# Altium footprint library Smartwatch_Lib.PcbLib: 19 footprints (part 1 of 2)
Each footprint in its own frame and in the unit in brackets; x right, y up, seen from the top. Pads: shape width x height; smd on the part's side, far side on the other; paste and mask are expansions set on the pad; w line width, h text height; cw(c..) or ccw(c..) is an arc to the next point about the centre after c.
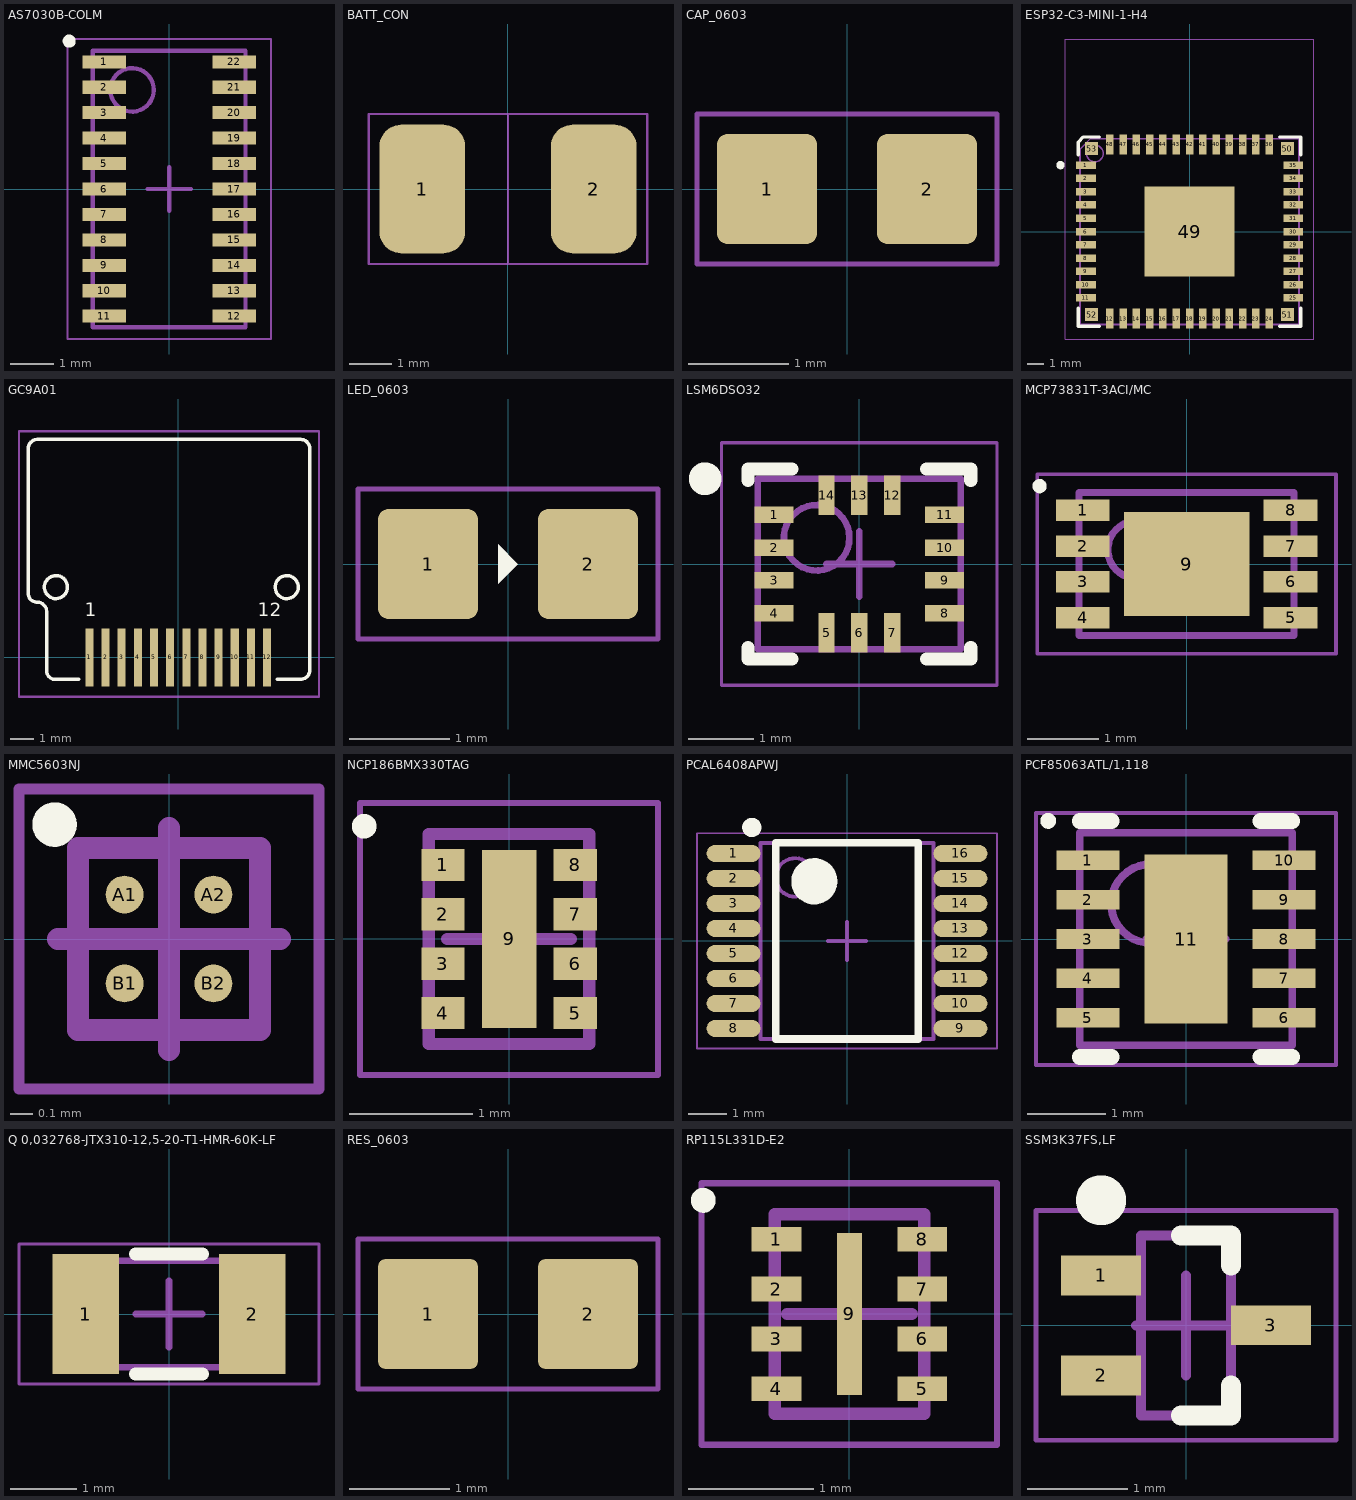
[diagram p0: the footprints below, top view; thin cyan lines are the x and y axes]

## AS7030B-COLM [mm] "SON, 22-Leads, Body 6.36x3.51mm, Pitch 0.59mm, IPC Medium Density"
height 1.1
pads (22):
  rect 1x0.3 smd: 1(-1.495,2.925) 2(-1.495,2.34) 3(-1.495,1.755) 4(-1.495,1.17) 5(-1.495,0.585) 6(-1.495,0) 7(-1.495,-0.585) 8(-1.495,-1.17) 9(-1.495,-1.755) 10(-1.495,-2.34) 11(-1.495,-2.925) 12(1.495,-2.925) 13(1.495,-2.34) 14(1.495,-1.755) 15(1.495,-1.17) 16(1.495,-0.585) 17(1.495,0) 18(1.495,0.585) 19(1.495,1.17) 20(1.495,1.755) 21(1.495,2.34) 22(1.495,2.925)
Top Overlay:
  circle w0.2: c-2.3,3.4 r0.05
Mechanical 13:
  circle w0.1: c-0.855,2.28 r0.5
  lines w0.1: -1.755,-3.18 -1.755,3.18 1.755,3.18 1.755,-3.18 -1.755,-3.18
Mechanical 15:
  lines w0.05: -2.34,-3.45 -2.34,3.45 2.34,3.45 2.34,-3.45 -2.34,-3.45
  lines w0.1: -0.5,0 0.5,0 ; 0,-0.5 0,0.5
3D body "SON58P350X110-22N.step": height 1.1, standoff 0, extent -1.755,-3.18 1.755,3.18

## BATT_CON [mm]
pads (2):
  rrect50% 2x3 smd: 1(-2,0) 2(2,0)
Mechanical 15:
  lines w0.05: 0,-1.75 0,1.75 ; -3.25,-1.75 -3.25,1.75 3.25,1.75 3.25,-1.75 -3.25,-1.75

## CAP_0603 [mm]
pads (2):
  rrect20% 1x1.1 smd: 1(-0.8,0) 2(0.8,0)
Mechanical 13:
  lines w0.1: -0.875,-0.475 -0.875,0.475 ; 0.875,-0.475 0.875,0.475
Mechanical 15:
  lines w0.05: -1.5,-0.75 1.5,-0.75 1.5,0.75 -1.5,0.75 -1.5,-0.75
3D body "c0603c101j1gactu.stp": height 0.87, standoff 0, extent -0.875,-0.475 0.875,0.475
3D body: height 0.55, standoff 0, extent -0.875,-0.475 -0.525,0.475
3D body: height 0.55, standoff 0, extent 0.525,-0.475 0.875,0.475

## ESP32-C3-MINI-1-H4 [mm]
height 2.55
pads (62):
  rect 1.2x0.45 smd: 1(-6.25,4) 2(-6.25,3.2) 3(-6.25,2.4) 4(-6.25,1.6) 5(-6.25,0.8) 6(-6.25,0) 7(-6.25,-0.8) 8(-6.25,-1.6) 9(-6.25,-2.4) 10(-6.25,-3.2) 11(-6.25,-4) 25(6.25,-4) 26(6.25,-3.2) 27(6.25,-2.4) 28(6.25,-1.6) 29(6.25,-0.8) 30(6.25,0) 31(6.25,0.8) 32(6.25,1.6) 33(6.25,2.4) 34(6.25,3.2) 35(6.25,4)
  rect 0.45x1.2 smd: 12(-4.8,-5.25) 13(-4,-5.25) 14(-3.2,-5.25) 15(-2.4,-5.25) 16(-1.6,-5.25) 17(-0.8,-5.25) 18(0,-5.25) 19(0.8,-5.25) 20(1.6,-5.25) 21(2.4,-5.25) 22(3.2,-5.25) 23(4,-5.25) 24(4.8,-5.25) 36(4.8,5.25) 37(4,5.25) 38(3.2,5.25) 39(2.4,5.25) 40(1.6,5.25) 41(0.8,5.25) 42(0,5.25) 43(-0.8,5.25) 44(-1.6,5.25) 45(-2.4,5.25) 46(-3.2,5.25) 47(-4,5.25) 48(-4.8,5.25)
  rect 5.4x5.4 smd paste-2539.97: 49(0,0)
  rect 0.8x0.8 smd: 50(5.9,5) 51(5.9,-5) 52(-5.9,-5) 53(-5.9,5)
  rect 1.45x1.45 on Top Paste: ""(-1.8,-1.8) ""(-1.8,0) ""(-1.8,1.8) ""(0,0) ""(0,1.8) ""(0.008,-1.86) ""(1.8,-1.8) ""(1.8,0) ""(1.8,1.8)
Top Overlay:
  circle w0.25: c-7.775,4 r0.125
  lines w0.2: -6.7,-4.625 -6.7,-5.7 -5.425,-5.7 ; -6.7,4.625 -6.7,5.391 -6.391,5.7 -5.425,5.7 ; 5.425,-5.7 6.7,-5.7 6.7,-4.625 ; 5.425,5.7 6.7,5.7 6.7,4.625
Mechanical 13:
  circle w0.1: c-5.7,4.7 r0.5
  lines w0.1: -6.6,-5.6 6.6,-5.6 6.6,5.6 -5.963,5.6 -6.6,4.962 -6.6,-5.6
Mechanical 15:
  lines w0.05: -7.475,-6.475 7.475,-6.475 7.475,6.475 7.475,11.6 -7.475,11.6 -7.475,6.475 -7.475,-6.475
  lines w0.1: -0.5,0 0.5,0 ; 0,-0.5 0,0.5
3D body "ESP32-C3-MINI-1.STEP": height 2.4, standoff 0, extent -6.6,-5.6 6.6,11

## GC9A01 [mm]
pads (12):
  rect 0.35x2.5 smd: 1(-3.85,0) 2(-3.15,0) 3(-2.45,0) 4(-1.75,0) 5(-1.05,0) 6(-0.35,0) 7(0.35,0) 8(1.05,0) 9(1.75,0) 10(2.45,0) 11(3.15,0) 12(3.85,0)
Top Overlay:
  circle w0.15: c4.7,3.05 r0.5
  circle w0.15: c-5.3,3.05 r0.5
  lines w0.15: -4.3,-0.95 -5.3,-0.95 cw(c-5.325,-0.575) -5.7,-0.6 -5.7,2 ccw(c-6.125,1.975) -6.15,2.4 cw(c-6.125,2.775) -6.5,2.8 -6.5,9.05 cw(c-6.1,9.05) -6.1,9.45 5.3,9.45 cw(c5.3,9.05) 5.7,9.05 5.7,-0.55 cw(c5.3,-0.55) 5.3,-0.95 4.3,-0.95
  text "1" at -4.05,1.6 h1
  text "12" at 3.45,1.6 h1
Mechanical 15:
  lines w0.1: -6.9,-1.7 6.1,-1.7 6.1,9.8 -6.9,9.8 -6.9,-1.7

## LED_0603 [mm]
pads (2):
  rrect20% 1x1.1 smd: 1(-0.8,0) 2(0.8,0)
Top Overlay:
  region: -0.1,-0.2 0.1,0 -0.1,0.2
Mechanical 13:
  lines w0.1: -0.875,-0.475 -0.875,0.475 ; 0.875,-0.475 0.875,0.475
Mechanical 15:
  lines w0.05: -1.5,-0.75 -1.5,0.75 1.5,0.75 1.5,-0.75 -1.5,-0.75
3D body "ALSRobot-LED0603(G).step": height 0.6, standoff 0, extent -0.81,-0.4 0.81,0.4

## LSM6DSO32 [mm] "QFN, 14-Leads, Body 3.00x2.50mm, Pitch 0.50mm, IPC Medium Density"
height 0.86
pads (14):
  rect 0.6x0.25 smd: 1(-1.3,0.75) 2(-1.3,0.25) 3(-1.3,-0.25) 4(-1.3,-0.75) 8(1.3,-0.75) 9(1.3,-0.25) 10(1.3,0.25) 11(1.3,0.75)
  rect 0.25x0.6 smd: 5(-0.5,-1.05) 6(0,-1.05) 7(0.5,-1.05) 12(0.5,1.05) 13(0,1.05) 14(-0.5,1.05)
Top Overlay:
  circle w0.25: c-2.35,1.3 r0.125
  lines w0.2: -1.7,-1.275 -1.7,-1.45 -1.025,-1.45 ; -1.7,1.275 -1.7,1.45 -1.025,1.45 ; 1.025,-1.45 1.7,-1.45 1.7,-1.275 ; 1.025,1.45 1.7,1.45 1.7,1.275
Mechanical 13:
  circle w0.1: c-0.65,0.4 r0.5
  lines w0.1: -1.55,-1.3 1.55,-1.3 1.55,1.3 -1.55,1.3 -1.55,-1.3
Mechanical 15:
  lines w0.05: -2.1,-1.85 2.1,-1.85 2.1,1.85 -2.1,1.85 -2.1,-1.85
  lines w0.1: -0.5,0 0.5,0 ; 0,-0.5 0,0.5
3D body "LSM6DSO32.step": height 0.86, standoff 0, extent -1.551,-1.301 1.551,1.301

## MCP73831T-3ACI/MC [mm] "SON, 8-Leads, Body 2.00x3.00mm, Pitch 0.50mm, Thermal Pad 1.43x1.58mm, IPC Medium Density"
height 1
pads (9):
  rect 0.75x0.3 smd: 1(-1.45,0.75) 2(-1.45,0.25) 3(-1.45,-0.25) 4(-1.45,-0.75) 5(1.45,-0.75) 6(1.45,-0.25) 7(1.45,0.25) 8(1.45,0.75)
  rect 1.75x1.45 smd: 9(0,0)
Top Overlay:
  circle w0.1: c-2.052,1.087 r0.05
Mechanical 13:
  circle w0.1: c-0.7,0.2 r0.4
  lines w0.1: -1.5,-1 -1.5,1 1.5,1 1.5,-1 -1.5,-1
Mechanical 15:
  lines w0.05: -2.085,-1.25 -2.085,1.25 2.085,1.25 2.085,-1.25 -2.085,-1.25
  lines w0.1: -0.5,0 0.5,0 ; 0,-0.5 0,0.5
3D body "User Library-DFN-8-2.step": height 0.91, standoff 0.01, extent -1.523,-1.006 1.517,0.994

## MMC5603NJ [mm] "BGA, 4-Leads, Body 0.82x0.82mmx0.60mm, Pitch 0.40mm"
height 0.6
pads (4):
  round 0.17 smd: A1(-0.2,0.2) A2(0.2,0.2) B1(-0.2,-0.2) B2(0.2,-0.2)
Top Overlay:
  circle w0.1: c-0.515,0.515 r0.05
Mechanical 13:
  lines w0.1: -0.41,-0.41 -0.41,0.41 0.41,0.41 0.41,-0.41 -0.41,-0.41
Mechanical 15:
  lines w0.05: -0.675,-0.675 -0.675,0.675 0.675,0.675 0.675,-0.675 -0.675,-0.675
  lines w0.1: -0.5,0 0.5,0 ; 0,-0.5 0,0.5
3D body "BGA4C40P2X2_82X82X60.step": height 0.6, standoff 0, extent -0.41,-0.41 0.41,0.41

## NCP186BMX330TAG [mm] "SON, 8-Leads, Body 1.60x1.20mm, Pitch 0.40mm, Thermal Pad 1.30x0.22mm, IPC Medium Density"
height 0.45
pads (9):
  rect 0.35x0.26 smd: 1(-0.535,0.6) 2(-0.535,0.2) 3(-0.535,-0.2) 4(-0.535,-0.6) 5(0.535,-0.6) 6(0.535,-0.2) 7(0.535,0.2) 8(0.535,0.6)
  rect 0.44x1.44 smd: 9(0,0)
Top Overlay:
  circle w0.1: c-1.172,0.912 r0.05
Mechanical 13:
  lines w0.1: -0.65,-0.85 -0.65,0.85 0.65,0.85 0.65,-0.85 -0.65,-0.85
Mechanical 15:
  lines w0.05: -1.205,-1.1 -1.205,1.1 1.205,1.1 1.205,-1.1 -1.205,-1.1
  lines w0.1: -0.5,0 0.5,0 ; 0,-0.5 0,0.5
3D body "SON40P120X45_HS-9N.step": height 0.45, standoff 0, extent -0.651,-0.85 0.651,0.85

## PCAL6408APWJ [mm] "TSOP, 16-Leads, Body 5.00x4.40mm, Pitch 0.65mm, IPC Medium Density"
height 1.1
pads (16):
  oval 1.4x0.45 smd: 1(-2.95,2.275) 2(-2.95,1.625) 3(-2.95,0.975) 4(-2.95,0.325) 5(-2.95,-0.325) 6(-2.95,-0.975) 7(-2.95,-1.625) 8(-2.95,-2.275) 9(2.95,-2.275) 10(2.95,-1.625) 11(2.95,-0.975) 12(2.95,-0.325) 13(2.95,0.325) 14(2.95,0.975) 15(2.95,1.625) 16(2.95,2.275)
Top Overlay:
  circle w0.6: c-0.85,1.55 r0.3
  circle w0.25: c-2.475,2.95 r0.125
  lines w0.2: -1.85,-2.55 1.85,-2.55 1.85,2.55 -1.85,2.55 -1.85,-2.55
Mechanical 13:
  circle w0.1: c-1.35,1.65 r0.5
  lines w0.1: -2.25,-2.55 2.25,-2.55 2.25,2.55 -2.25,2.55 -2.25,-2.55
Mechanical 15:
  lines w0.05: -3.9,-2.8 3.9,-2.8 3.9,2.8 -3.9,2.8 -3.9,-2.8
  lines w0.1: -0.5,0 0.5,0 ; 0,-0.5 0,0.5
3D body "TSOP65P640X110-16N.step": height 1.1, standoff 0, extent -3.2,-2.55 3.2,2.55

## PCF85063ATL/1,118 [mm] "SON, 10-Leads, Body 2.60x2.60mm, Pitch 0.50mm, Thermal Pad 2.15x1.29mm, IPC Medium Density"
height 0.5
pads (11):
  rect 0.8x0.25 smd: 1(-1.245,1) 2(-1.245,0.5) 3(-1.245,0) 4(-1.245,-0.5) 5(-1.245,-1) 6(1.245,-1) 7(1.245,-0.5) 8(1.245,0) 9(1.245,0.5) 10(1.245,1)
  rect 1.05x2.15 smd: 11(0,0)
Top Overlay:
  circle w0.1: c-1.75,1.5 r0.05
  lines w0.2: -1.35,-1.5 -0.945,-1.5 ; -1.35,1.5 -0.945,1.5 ; 0.945,-1.5 1.35,-1.5 ; 0.945,1.5 1.35,1.5
Mechanical 13:
  circle w0.1: c-0.45,0.45 r0.5
  lines w0.1: -1.35,-1.35 -1.35,1.35 1.35,1.35 1.35,-1.35 -1.35,-1.35
Mechanical 15:
  lines w0.05: -1.905,-1.6 -1.905,1.6 1.905,1.6 1.905,-1.6 -1.905,-1.6
  lines w0.1: -0.5,0 0.5,0 ; 0,-0.5 0,0.5
3D body "SON50P260X50_HS-11N.step": height 0.5, standoff 0, extent -1.351,-1.35 1.351,1.35

## Q 0,032768-JTX310-12,5-20-T1-HMR-60K-LF [mm] "Tuning Fork 2-Leads, Body 3.20x1.50mm, IPC Medium Density"
height 0.9
pads (2):
  rect 1x1.8 smd: 1(-1.25,0) 2(1.25,0)
Top Overlay:
  lines w0.2: -0.5,-0.9 0.5,-0.9 ; -0.5,0.9 0.5,0.9
Mechanical 13:
  lines w0.1: -1.65,-0.8 -1.65,0.8 1.65,0.8 1.65,-0.8 -1.65,-0.8
Mechanical 15:
  lines w0.05: -2.25,-1.05 -2.25,1.05 2.25,1.05 2.25,-1.05 -2.25,-1.05
  lines w0.1: -0.5,0 0.5,0 ; 0,-0.5 0,0.5
3D body "crystal_rtf3215.stp": height 0.92, standoff 0.01, extent -1.6,-0.75 1.6,0.75

## RES_0603 [mm]
pads (2):
  rrect15% 1x1.1 smd: 1(-0.8,0) 2(0.8,0)
Mechanical 15:
  lines w0.05: -1.5,-0.75 1.5,-0.75 1.5,0.75 -1.5,0.75 -1.5,-0.75
3D body "0603.step": height 0.46, standoff 0.01, extent -0.8,-0.4 0.8,0.4

## RP115L331D-E2 [mm] "SON, 8-Leads, Body 1.60x1.20mm, Pitch 0.40mm, Thermal Pad 1.30x0.02mm, IPC Medium Density"
height 0.4
pads (9):
  rect 0.4x0.2 smd: 1(-0.585,0.6) 2(-0.585,0.2) 3(-0.585,-0.2) 4(-0.585,-0.6) 5(0.585,-0.6) 6(0.585,-0.2) 7(0.585,0.2) 8(0.585,0.6)
  rect 0.2x1.3 smd: 9(0,0)
Top Overlay:
  circle w0.1: c-1.172,0.912 r0.05
Mechanical 13:
  lines w0.1: -0.6,-0.8 -0.6,0.8 0.6,0.8 0.6,-0.8 -0.6,-0.8
Mechanical 15:
  lines w0.05: -1.185,-1.05 -1.185,1.05 1.185,1.05 1.185,-1.05 -1.185,-1.05
  lines w0.1: -0.5,0 0.5,0 ; 0,-0.5 0,0.5
3D body "SON40P120X40_HS-9N.step": height 0.4, standoff 0.05, extent -0.6,-0.8 0.6,0.8

## SSM3K37FS,LF [mm] "SOT23, 3-Leads, Body 1.60x1.60mm, Pitch 0.50mm, IPC Medium Density"
height 0.8
pads (3):
  rect 0.8x0.4 smd: 1(-0.85,0.5) 2(-0.85,-0.5) 3(0.85,0)
Top Overlay:
  circle w0.25: c-0.85,1.25 r0.125
  lines w0.2: -0.05,-0.9 0.45,-0.9 0.45,-0.6 ; -0.05,0.9 0.45,0.9 0.45,0.6
Mechanical 13:
  lines w0.1: -0.45,-0.9 -0.45,0.9 0.45,0.9 0.45,-0.9 -0.45,-0.9
Mechanical 15:
  lines w0.05: -1.5,-1.15 -1.5,1.15 1.5,1.15 1.5,-1.15 -1.5,-1.15
  lines w0.1: -0.5,0 0.5,0 ; 0,-0.5 0,0.5
3D body "SOT50P160X80-3N.step": height 0.8, standoff 0, extent -0.9,-0.9 0.9,0.9